# EAGLE library part CVS-03B (library Switch)
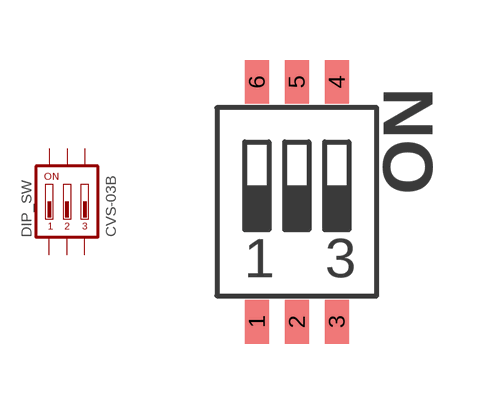
[diagram p2: symbol with the pads of CVS-03B; footprint CVS-03B]

Designator prefix DIP_SW

## CVS-03B  [CVS-03B]
1  1  pas
2  2  pas
3  3  pas
4  4  pas
5  5  pas
6  6  pas

## Footprint CVS-03B (pad centres in mm)
smd 0.6 x 1.1: 1 -1,-3; 2 0,-3; 3 1,-3; 4 1,3; 5 0,3; 6 -1,3